# Altium footprint library chipshouter-pico.PcbLib: 27 footprints (part 2 of 2)
Each footprint in its own frame and in the unit in brackets; x right, y up, seen from the top. Pads: shape width x height; smd on the part's side, far side on the other; paste and mask are expansions set on the pad; w line width, h text height; cw(c..) or ccw(c..) is an arc to the next point about the centre after c.
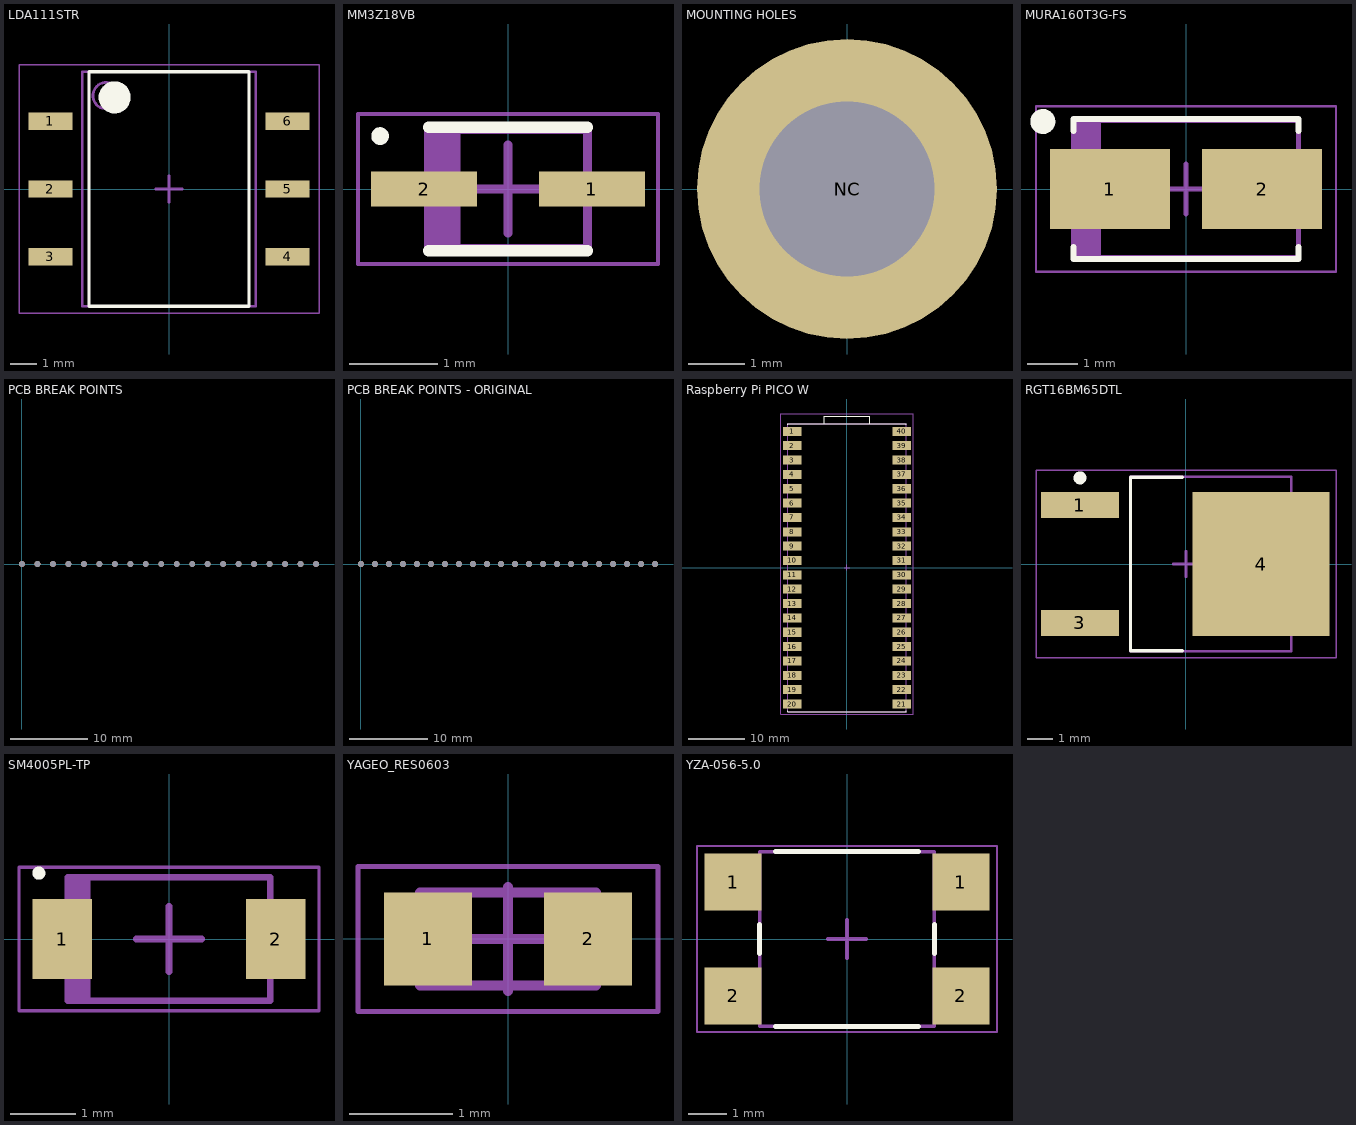
[diagram p1: the footprints below, top view; thin cyan lines are the x and y axes]

## LDA111STR [mm] "100mA 1V@3mA,1mA 85V 5V 1.2V DC SMD-6P Transistor, Photovoltaic Output Optoisolators RoHS"
height 4.7
pads (6):
  rect 1.65x0.65 smd mask+0.05: 1(-4.45,2.54) 2(-4.45,0) 3(-4.45,-2.54) 4(4.45,-2.54) 5(4.45,0) 6(4.45,2.54)
Top Overlay:
  circle w0.6: c-2.037,3.437 r0.3
  lines w0.127: -3,-4.4 -3,4.4 3,4.4 3,-4.4 -3,-4.4
Top Assembly:
  circle w0.1: c-2.35,3.5 r0.5
  lines w0.1: -3.25,-4.4 -3.25,4.4 3.25,4.4 3.25,-4.4 -3.25,-4.4
  text ".Designator" at -2.252,-0.226 h1
Top Courtyard:
  lines w0.05: -5.625,-4.65 -5.625,4.65 5.625,4.65 5.625,-4.65 -5.625,-4.65
  lines w0.1: -0.5,0 0.5,0 ; 0,-0.5 0,0.5
3D body "SOP254P950X470-6N.step": height 4.7, standoff 0, extent -4.762,-4.4 4.762,4.4

## MM3Z18VB [mm] "DIODE ZENER 18V 200mW SOD-323FL"
height 0.9
pads (2):
  rect 1.2x0.4 smd mask+0.05: 1(0.95,0) 2(-0.95,0)
Top Overlay:
  circle w0.1: c-1.45,0.6 r0.05
  lines w0.127: -0.9,-0.7 0.9,-0.7 ; -0.9,0.7 0.9,0.7
Top Assembly:
  rectangle: -0.94,-0.65 -0.54,0.65
  lines w0.1: -0.9,-0.675 0.9,-0.675 0.9,0.675 -0.9,0.675 -0.9,-0.675
  text ".Designator" at -0.451,-0.045 h0.2
Top Courtyard:
  lines w0.05: -1.7,-0.85 1.7,-0.85 1.7,0.85 -1.7,0.85 -1.7,-0.85
  lines w0.1: -0.5,0 0.5,0 ; 0,-0.5 0,0.5
3D body "SODFL250X90-2N.step": height 0.9, standoff 0, extent -1.25,-0.675 1.25,0.675

## MOUNTING HOLES [mm] "Mounting holes"
pads (1):
  round 5.3 hole 3.1: NC(0,0)

## MURA160T3G-FS [mm] "Diode 600V 1A SMA(DO-214AC)"
height 2.42
pads (2):
  rect 2.4x1.6 smd mask+0.05: 1(-1.525,0) 2(1.525,0)
Top Overlay:
  circle w0.25: c-2.864,1.35 r0.125
  lines w0.127: -2.25,-1.163 -2.25,-1.4 2.25,-1.4 2.25,-1.163 ; -2.25,1.164 -2.25,1.4 2.25,1.4 2.25,1.164
Top Assembly:
  rectangle: -2.3,-1.375 -1.7,1.375
  lines w0.1: -2.25,-1.375 2.25,-1.375 2.25,1.375 -2.25,1.375 -2.25,-1.375
  text ".Designator" at -1.349,-0.135 h0.6
Top Courtyard:
  lines w0.05: -3,-1.65 3,-1.65 3,1.65 -3,1.65 -3,-1.65
  lines w0.1: -0.5,0 0.5,0 ; 0,-0.5 0,0.5
3D body "DIOM4226X24N.step": height 2.42, standoff 0, extent -2.47,-1.375 2.47,1.375

## PCB BREAK POINTS [mil] "PCB break points - 20 holes, 2mm pitch"
pads (20):
  round 30 hole 30 unplated mask+1.97: NC(0,0) NC(78.74,0) NC(157.48,0) NC(236.22,0) NC(314.96,0) NC(393.7,0) NC(472.44,0) NC(551.18,0) NC(629.92,0) NC(708.66,0) NC(787.4,0) NC(866.14,0) NC(944.88,0) NC(1023.62,0) NC(1102.36,0) NC(1181.1,0) NC(1259.84,0) NC(1338.58,0) NC(1417.32,0) NC(1496.06,0)

## PCB BREAK POINTS - ORIGINAL [mil] "PCB break points - 22 holes, 1.8mm pitch"
pads (22):
  round 30 hole 30 unplated mask+1.97: NC(0,0) NC(70.87,0) NC(141.73,0) NC(212.6,0) NC(283.46,0) NC(354.33,0) NC(425.2,0) NC(496.06,0) NC(566.93,0) NC(637.8,0) NC(708.66,0) NC(779.53,0) NC(850.39,0) NC(921.26,0) NC(992.13,0) NC(1062.99,0) NC(1133.86,0) NC(1204.72,0) NC(1275.59,0) NC(1346.46,0) NC(1417.32,0) NC(1488.19,0)

## Raspberry Pi PICO W [mm] "Evaluation and Demonstration Boards and Kits RoHS"
pads (40):
  rect 3.2x1.6 smd mask+0.05: 1(-9.69,24.13) 2(-9.69,21.59) 3(-9.69,19.05) 4(-9.69,16.51) 5(-9.69,13.97) 6(-9.69,11.43) 7(-9.69,8.89) 8(-9.69,6.35) 9(-9.69,3.81) 10(-9.69,1.27) 11(-9.69,-1.27) 12(-9.69,-3.81) 13(-9.69,-6.35) 14(-9.69,-8.89) 15(-9.69,-11.43) 16(-9.69,-13.97) 17(-9.69,-16.51) 18(-9.69,-19.05) 19(-9.69,-21.59) 20(-9.69,-24.13) 21(9.69,-24.13) 22(9.69,-21.59) 23(9.69,-19.05) 24(9.69,-16.51) 25(9.69,-13.97) 26(9.69,-11.43) 27(9.69,-8.89) 28(9.69,-6.35) 29(9.69,-3.81) 30(9.69,-1.27) 31(9.69,1.27) 32(9.69,3.81) 33(9.69,6.35) 34(9.69,8.89) 35(9.69,11.43) 36(9.69,13.97) 37(9.69,16.51) 38(9.69,19.05) 39(9.69,21.59) 40(9.69,24.13)
Top Overlay:
  lines w0.127: -10.5,-25.293 -10.5,-25.5 10.5,-25.5 10.5,-25.293 ; -10.5,25.293 -10.5,25.5 10.5,25.5 10.5,25.293 ; -4,25.5 -4,26.8 4,26.8 4,25.5
Top Assembly:
  lines w0.1: -10.5,-25.5 -10.5,25.5 10.5,25.5 10.5,-25.5 -10.5,-25.5
  text ".Designator" at -2.252,-0.226 h1
Top Courtyard:
  lines w0.05: -11.69,-25.9 11.69,-25.9 11.69,27.2 -11.69,27.2 -11.69,-25.9
  lines w0.1: -0.5,0 0.5,0 ; 0,-0.5 0,0.5

## RGT16BM65DTL [mm] "IGBT Trench Field Stop 650 V 16 A 94 W Surface Mount TO-252"
height 2.38
pads (3):
  rect 3x1 smd mask+0.05: 1(-4.1,2.28) 3(-4.1,-2.28)
  rect 5.3x5.55 smd mask+0.05: 4(2.9,0)
Top Overlay:
  circle w0.25: c-4.1,3.33 r0.125
  lines w0.127: -0.15,-3.35 -2.15,-3.35 -2.15,3.35 -0.15,3.35
Top Assembly:
  lines w0.1: -2.15,-3.375 4.07,-3.375 4.07,3.375 -2.15,3.375 -2.15,-3.375
  text ".Designator" at -0.226,2.252 h1
Top Courtyard:
  lines w0.05: -5.8,-3.625 5.8,-3.625 5.8,3.625 -5.8,3.625 -5.8,-3.625
  lines w0.1: -0.5,0 0.5,0 ; 0,-0.5 0,0.5
3D body "DPAK228P991X238-3N.step": height 2.51, standoff 0, extent -4.39,-3.375 5.515,3.375

## SM4005PL-TP [mil] "DIODE STANDARD 600V 1A SOD-123FL"
height 47.24
pads (2):
  rect 36x48 smd mask+1.97: 1(-64.5,0) 2(64.5,0)
Top Overlay:
  circle w3.94: c-78.56,39.76 r1.97
Top Assembly:
  rectangle: -62.99,-37.4 -47.24,37.4
  lines w3.94: -61.02,-37.4 -61.02,37.4 61.02,37.4 61.02,-37.4 -61.02,-37.4
  text ".Designator" at -35.32,-3.55 h15.75
Top Courtyard:
  lines w1.97: -90.55,-43.31 -90.55,43.31 90.55,43.31 90.55,-43.31 -90.55,-43.31
  lines w3.94: -19.68,0 19.68,0 ; 0,-19.68 0,19.68
3D body "SODFL370X120-2N.step": height 47.24, standoff 0, extent -72.83,-37.4 72.83,37.4

## YAGEO_RES0603 [mm] "YAGEO RC 0603 Chip Resistor"
height 0.55
pads (2):
  rect 0.85x0.9 smd mask+0.05: 1(-0.775,0) 2(0.775,0)
Top Assembly:
  lines w0.1: -0.85,-0.45 -0.85,0.45 0.85,0.45 0.85,-0.45 -0.85,-0.45
  text ".Designator" at -0.674,-0.068 h0.3
Top Courtyard:
  lines w0.05: -1.45,-0.7 -1.45,0.7 1.45,0.7 1.45,-0.7 -1.45,-0.7
  lines w0.1: -0.5,0 0.5,0 ; 0,-0.5 0,0.5
3D body "RESC1608X06N.step": height 0.55, standoff 0, extent -0.85,-0.45 0.85,0.45

## YZA-056-5.0 [mm] "Rectangle button SPST Tactile Switches"
height 4
pads (4):
  rect 1.5x1.5 smd mask+0.05: 1(-3,1.5) 1(3,1.5) 2(-3,-1.5) 2(3,-1.5)
Top Overlay:
  lines w0.127: -2.3,-0.387 -2.3,0.387 ; -1.887,-2.3 1.887,-2.3 ; -1.887,2.3 1.887,2.3 ; 2.3,-0.387 2.3,0.387
Top Assembly:
  lines w0.1: -2.3,-2.3 -2.3,2.3 2.3,2.3 2.3,-2.3 -2.3,-2.3
  text ".Designator" at -1.801,-0.181 h0.8
Top Courtyard:
  lines w0.05: -3.95,-2.45 3.95,-2.45 3.95,2.45 -3.95,2.45 -3.95,-2.45
  lines w0.1: -0.5,0 0.5,0 ; 0,-0.5 0,0.5